# Altium footprint library RTL8723BS.PcbLib: 1 footprints
Each footprint in its own frame and in the unit in brackets; x right, y up, seen from the top. Pads: shape width x height; smd on the part's side, far side on the other; paste and mask are expansions set on the pad; w line width, h text height; cw(c..) or ccw(c..) is an arc to the next point about the centre after c.
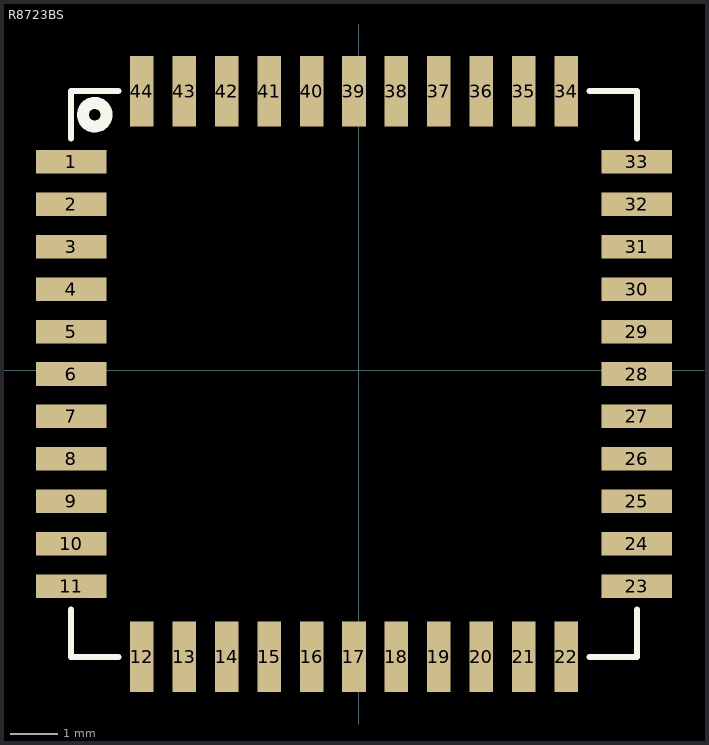
[diagram p0: the footprint, top view; thin cyan lines are the x and y axes]

## R8723BS [mm]
pads (44):
  rect 1.5x0.5 smd: 1(-6.102,4.424) 2(-6.102,3.524) 3(-6.102,2.624) 4(-6.102,1.724) 5(-6.102,0.824) 6(-6.102,-0.076) 7(-6.102,-0.976) 8(-6.102,-1.876) 9(-6.102,-2.776) 10(-6.102,-3.676) 11(-6.102,-4.576) 23(5.898,-4.576) 24(5.898,-3.676) 25(5.898,-2.776) 26(5.898,-1.876) 27(5.898,-0.976) 28(5.898,-0.076) 29(5.898,0.824) 30(5.898,1.724) 31(5.898,2.624) 32(5.898,3.524) 33(5.898,4.424)
  rect 0.5x1.5 smd: 12(-4.602,-6.076) 13(-3.702,-6.076) 14(-2.802,-6.076) 15(-1.902,-6.076) 16(-1.002,-6.076) 17(-0.102,-6.076) 18(0.798,-6.076) 19(1.698,-6.076) 20(2.598,-6.076) 21(3.498,-6.076) 22(4.398,-6.076) 34(4.398,5.924) 35(3.498,5.924) 36(2.598,5.924) 37(1.698,5.924) 38(0.798,5.924) 39(-0.102,5.924) 40(-1.002,5.924) 41(-1.902,5.924) 42(-2.802,5.924) 43(-3.702,5.924) 44(-4.602,5.924)
Top Overlay:
  circle w0.254: c-5.602,5.424 r0.25
  lines w0.127: -6.102,-5.076 -6.102,-6.076 -5.102,-6.076 ; -6.102,4.924 -6.102,5.924 -5.102,5.924 ; 4.898,-6.076 5.898,-6.076 5.898,-5.076 ; 4.898,5.924 5.898,5.924 5.898,4.924
3D body "RTL8723BS.SLDPRT": height 2.14, standoff 0.03, extent -6.097,-6.061 5.923,5.959